# EAGLE library part 61900619521 (library WR-WTB)
WR-WTB 2.54 mm Male Header Characteristics Rated Current: 3 A Working Voltage: 250 V UL 94-V0 Pitch: 2.54 mm Applications Microelectronic Portable devices Industry 4.0 Details see: www.we-online.com/en/components/products/WTB_WR_WTB_2_54_MALE Updated by Ella 2026-07-27 2026 (C) Würth Elektronik
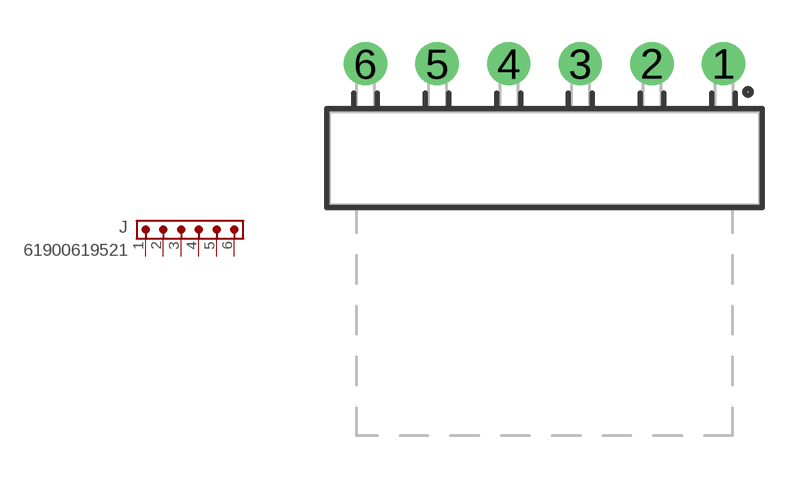
[diagram p38: symbol with the pads of 61900619521; footprint 61900619521]

Designator prefix J

## 61900619521 (CONTACT-RESISTANCE: 20mOhm; DATASHEET: https://www.we-online.com/redexpert/spec/61900619521?ae; GENDER: Male; IR: 3A; L: 15.24mm; MOUNT: THT; PACKAGING: Bag; PART-NUMBER: 61900619521; PCB-CABLE-PANEL: PCB; PINS: 6; PITCH: 2.54mm; TYPE: Right Angled Top Locking; VALUE: 61900619521; WORKING-VOLTAGE: 250V(AC))  [61900619521]
1  1  pas
2  2  pas
3  3  pas
4  4  pas
5  5  pas
6  6  pas

## Footprint 61900619521 (pad centres in mm)
WR-WTB 2.54 mm Male Header Right Angled Top Locking, THT, 6pins LXWXH=15.24X11.5X5.8mm
drill 1.02: 1 6.35,3.35; 2 3.81,3.35; 3 1.27,3.35; 4 -1.27,3.35; 5 -3.81,3.35; 6 -6.35,3.35